# EAGLE library part TSL2591 (library FaBo-Sensor)
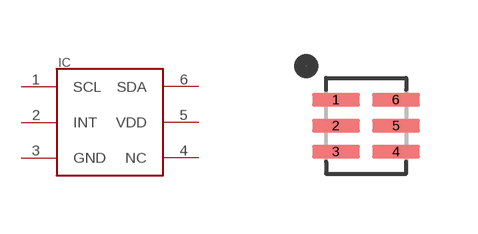
[diagram p17: symbol with the pads of TSL2591(SON); footprint TSL2591(SON)]

Designator prefix IC

## TSL2591  [TSL2591(SON)]
1  SCL
2  INT
3  GND
4  NC
5  VDD
6  SDA

## Footprint TSL2591(SON) (pad centres in mm)
smd 1.2 x 0.35: 1 -0.75,0.65; 2 -0.75,0; 3 -0.75,-0.65; 4 0.75,-0.65; 5 0.75,0; 6 0.75,0.65